# Altium integrated library TI_Logic_Little_Logic.IntLib: 1164 symbols (part 14 of 35)
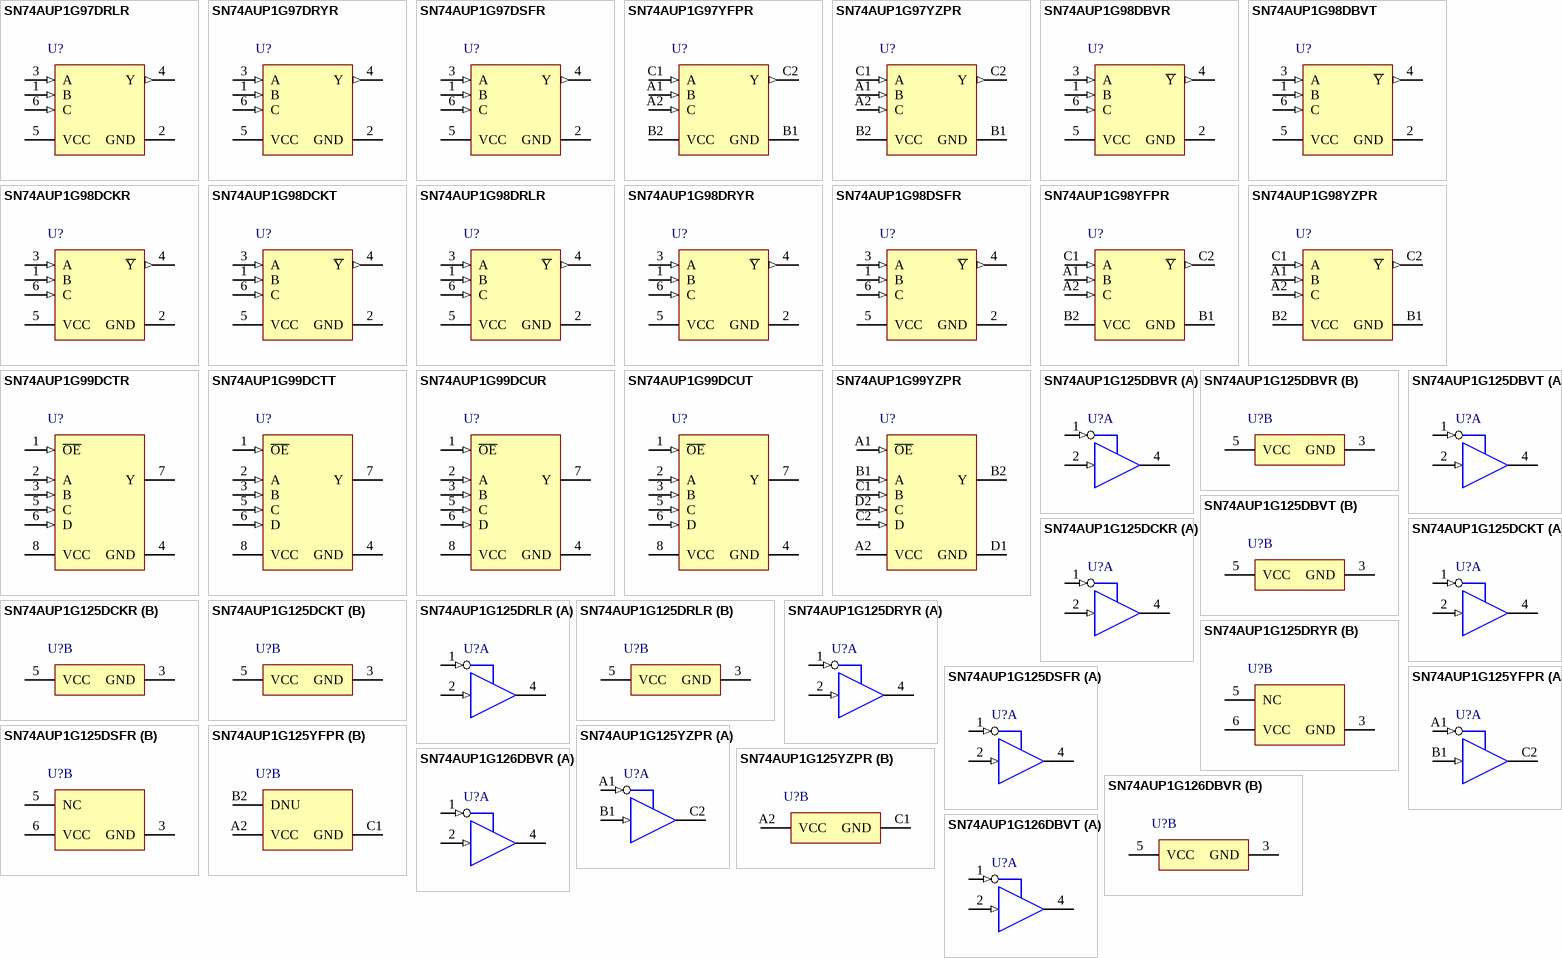
[diagram p73: symbols SN74AUP1G97DRLR to SN74AUP1G126DBVT]

## SN74AUP1G99DCTR
designator U?
Low-Power Ultra-Configurable Multiple-Function Gate with 3-State Outputs, DCT0008A, LARGE T&R; Generic Part Number: SN74AUP1G99; Manufacturer: Texas Instruments; PartNumber: SN74AUP1G99DCTR; VCC(Min)(V): 0.8; VCC(Max)(V): 3.6; Output Type: CMOS; ICC @ Nom Voltage(Max)(mA): 0.0009; Bits(#): 1; F @ Nom Voltage(Max)(Mhz): 100; Rating: Catalog; Technology Family: AUP; Voltage(Nom)(V): 0.8,1.2,1.5,1.8,2.5,3.3; Schmitt Trigger: No; Output Drive (IOL/IOH)(Max)(mA): 20/-20; tpd @ Nom Voltage(Max)(ns): 48,24.9,15.1,11.7,7.9,6.7; Logic: True; Sub-Family: Configurable Logic; 3-State Output: Yes; DatasheetVersion: SCES594C; PackageReference: DCT0008A; Supplier 1: Mouser; Supplier Part Number 1: 595-SN74AUP1G99DCTR; Supplier 2: Digi-Key; Supplier Part Number 2: 296-19089-2-ND; Supplier 3: Digi-Key; Supplier Part Number 3: 296-19089-1-ND; Supplier 4: Digi-Key; Supplier Part Number 4: 296-19089-6-ND; Input Type: CMOS; Operating Temperature Range(C): -40 to 85; Gate Type: Configurable; ComponentLink1Description: Manufacturer URL; ComponentLink1URL: http://www.ti.com/; ComponentLink2Description: Datasheet; ComponentLink2URL: http://www.ti.com/lit/ds/symlink/sn74aup1g99.pdf
footprint DCT0008A_N (SOP, 8-Leads, Body 2.9x3.2mm, Pitch 0.65mm, IPC Medium Density)
footprint DCT0008A_M (SOP, 8-Leads, Body 2.9x3.2mm, Pitch 0.65mm, IPC Low Density)
footprint DCT0008A_L (SOP, 8-Leads, Body 2.9x3.2mm, Pitch 0.65mm, IPC High Density)
pins: 1 ~{OE} (in), 2 A (in), 3 B (in), 4 GND (power), 5 C (in), 6 D (in), 7 Y (hiz), 8 VCC (power)

## SN74AUP1G99DCTT
designator U?
Low-Power Ultra-Configurable Multiple-Function Gate with 3-State Outputs, DCT0008A, SMALL T&R; Generic Part Number: SN74AUP1G99; Manufacturer: Texas Instruments; PartNumber: SN74AUP1G99DCTT; VCC(Min)(V): 0.8; VCC(Max)(V): 3.6; Output Type: CMOS; ICC @ Nom Voltage(Max)(mA): 0.0009; Bits(#): 1; F @ Nom Voltage(Max)(Mhz): 100; Rating: Catalog; Technology Family: AUP; Voltage(Nom)(V): 0.8,1.2,1.5,1.8,2.5,3.3; Schmitt Trigger: No; Output Drive (IOL/IOH)(Max)(mA): 20/-20; tpd @ Nom Voltage(Max)(ns): 48,24.9,15.1,11.7,7.9,6.7; Logic: True; Sub-Family: Configurable Logic; 3-State Output: Yes; DatasheetVersion: SCES594C; PackageReference: DCT0008A; Supplier 1: Mouser; Supplier Part Number 1: 595-SN74AUP1G99DCTT; Supplier 2: Digi-Key; Supplier Part Number 2: SN74AUP1G99DCTT-ND; Input Type: CMOS; Operating Temperature Range(C): -40 to 85; Gate Type: Configurable; ComponentLink1Description: Manufacturer URL; ComponentLink1URL: http://www.ti.com/; ComponentLink2Description: Datasheet; ComponentLink2URL: http://www.ti.com/lit/ds/symlink/sn74aup1g99.pdf
footprint DCT0008A_N (SOP, 8-Leads, Body 2.9x3.2mm, Pitch 0.65mm, IPC Medium Density)
footprint DCT0008A_M (SOP, 8-Leads, Body 2.9x3.2mm, Pitch 0.65mm, IPC Low Density)
footprint DCT0008A_L (SOP, 8-Leads, Body 2.9x3.2mm, Pitch 0.65mm, IPC High Density)
pins: 1 ~{OE} (in), 2 A (in), 3 B (in), 4 GND (power), 5 C (in), 6 D (in), 7 Y (hiz), 8 VCC (power)

## SN74AUP1G99DCUR
designator U?
Low-Power Ultra-Configurable Multiple-Function Gate with 3-State Outputs, DCU0008A, LARGE T&R; Generic Part Number: SN74AUP1G99; Manufacturer: Texas Instruments; PartNumber: SN74AUP1G99DCUR; VCC(Min)(V): 0.8; VCC(Max)(V): 3.6; Output Type: CMOS; ICC @ Nom Voltage(Max)(mA): 0.0009; Bits(#): 1; F @ Nom Voltage(Max)(Mhz): 100; Rating: Catalog; Technology Family: AUP; Voltage(Nom)(V): 0.8,1.2,1.5,1.8,2.5,3.3; Schmitt Trigger: No; Output Drive (IOL/IOH)(Max)(mA): 20/-20; tpd @ Nom Voltage(Max)(ns): 48,24.9,15.1,11.7,7.9,6.7; Logic: True; Sub-Family: Configurable Logic; 3-State Output: Yes; DatasheetVersion: SCES594C; PackageReference: DCU0008A; Supplier 1: Mouser; Supplier Part Number 1: 595-SN74AUP1G99DCUR; Supplier 2: Digi-Key; Supplier Part Number 2: 296-19090-2-ND; Supplier 3: Digi-Key; Supplier Part Number 3: 296-19090-1-ND; Supplier 4: Digi-Key; Supplier Part Number 4: 296-19090-6-ND; Input Type: CMOS; Operating Temperature Range(C): -40 to 85; Gate Type: Configurable; ComponentLink1Description: Manufacturer URL; ComponentLink1URL: http://www.ti.com/; ComponentLink2Description: Datasheet; ComponentLink2URL: http://www.ti.com/lit/ds/symlink/sn74aup1g99.pdf
footprint DCU0008A_N (SOP, 8-Leads, Body 2.4x2.1mm, Pitch 0.5mm, IPC Medium Density)
footprint DCU0008A_M (SOP, 8-Leads, Body 2.4x2.1mm, Pitch 0.5mm, IPC Low Density)
footprint DCU0008A_L (SOP, 8-Leads, Body 2.4x2.1mm, Pitch 0.5mm, IPC High Density)
pins: 1 ~{OE} (in), 2 A (in), 3 B (in), 4 GND (power), 5 C (in), 6 D (in), 7 Y (hiz), 8 VCC (power)

## SN74AUP1G99DCUT
designator U?
Low-Power Ultra-Configurable Multiple-Function Gate with 3-State Outputs, DCU0008A, SMALL T&R; Generic Part Number: SN74AUP1G99; Manufacturer: Texas Instruments; PartNumber: SN74AUP1G99DCUT; VCC(Min)(V): 0.8; VCC(Max)(V): 3.6; Output Type: CMOS; ICC @ Nom Voltage(Max)(mA): 0.0009; Bits(#): 1; F @ Nom Voltage(Max)(Mhz): 100; Rating: Catalog; Technology Family: AUP; Voltage(Nom)(V): 0.8,1.2,1.5,1.8,2.5,3.3; Schmitt Trigger: No; Output Drive (IOL/IOH)(Max)(mA): 20/-20; tpd @ Nom Voltage(Max)(ns): 48,24.9,15.1,11.7,7.9,6.7; Logic: True; Sub-Family: Configurable Logic; 3-State Output: Yes; DatasheetVersion: SCES594C; PackageReference: DCU0008A; Supplier 1: Mouser; Supplier Part Number 1: 595-SN74AUP1G99DCUT; Supplier 2: Digi-Key; Supplier Part Number 2: SN74AUP1G99DCUT-ND; Input Type: CMOS; Operating Temperature Range(C): -40 to 85; Gate Type: Configurable; ComponentLink1Description: Manufacturer URL; ComponentLink1URL: http://www.ti.com/; ComponentLink2Description: Datasheet; ComponentLink2URL: http://www.ti.com/lit/ds/symlink/sn74aup1g99.pdf
footprint DCU0008A_N (SOP, 8-Leads, Body 2.4x2.1mm, Pitch 0.5mm, IPC Medium Density)
footprint DCU0008A_M (SOP, 8-Leads, Body 2.4x2.1mm, Pitch 0.5mm, IPC Low Density)
footprint DCU0008A_L (SOP, 8-Leads, Body 2.4x2.1mm, Pitch 0.5mm, IPC High Density)
pins: 1 ~{OE} (in), 2 A (in), 3 B (in), 4 GND (power), 5 C (in), 6 D (in), 7 Y (hiz), 8 VCC (power)

## SN74AUP1G99YZPR
designator U?
Low-Power Ultra-Configurable Multiple-Function Gate with 3-State Outputs, YZP0008ADAD, LARGE T&R; Generic Part Number: SN74AUP1G99; Manufacturer: Texas Instruments; PartNumber: SN74AUP1G99YZPR; VCC(Min)(V): 0.8; VCC(Max)(V): 3.6; Output Type: CMOS; ICC @ Nom Voltage(Max)(mA): 0.0009; Bits(#): 1; F @ Nom Voltage(Max)(Mhz): 100; Rating: Catalog; Technology Family: AUP; Voltage(Nom)(V): 0.8,1.2,1.5,1.8,2.5,3.3; Schmitt Trigger: No; Output Drive (IOL/IOH)(Max)(mA): 20/-20; tpd @ Nom Voltage(Max)(ns): 48,24.9,15.1,11.7,7.9,6.7; Logic: True; Sub-Family: Configurable Logic; 3-State Output: Yes; DatasheetVersion: SCES594C; PackageReference: YZP0008ADAD; Supplier 1: Mouser; Supplier Part Number 1: 595-SN74AUP1G99YZPR; Supplier 2: Digi-Key; Supplier Part Number 2: 296-21020-2-ND; Supplier 3: Digi-Key; Supplier Part Number 3: 296-21020-1-ND; Supplier 4: Digi-Key; Supplier Part Number 4: 296-21020-6-ND; Input Type: CMOS; Operating Temperature Range(C): -40 to 85; Gate Type: Configurable; ComponentLink1Description: Manufacturer URL; ComponentLink1URL: http://www.ti.com/; ComponentLink2Description: Datasheet; ComponentLink2URL: http://www.ti.com/lit/ds/symlink/sn74aup1g99.pdf
footprint YZP0008ADAD (BGA, 8-Balls, Body 1.89x0.89mm, Pitch 0.5mm)
pins: A1 ~{OE} (in), A2 VCC (power), B1 A (in), B2 Y (hiz), C1 B (in), C2 D (in), D1 GND (power), D2 C (in)

## SN74AUP1G125DBVR
designator U?
Low-Power Single Bus Buffer Gate with 3-State Output, DBV0005A, LARGE T&R; Generic Part Number: SN74AUP1G125; Manufacturer: Texas Instruments; PartNumber: SN74AUP1G125DBVR; VCC(Min)(V): 0.8; VCC(Max)(V): 3.6; Output Type: CMOS; ICC @ Nom Voltage(Max)(mA): 0.0009; Bits(#): 1; F @ Nom Voltage(Max)(Mhz): 100; Rating: Catalog; Technology Family: AUP; Voltage(Nom)(V): 0.8,1.2,1.5,1.8,2.5,3.3; Schmitt Trigger: No; Output Drive (IOL/IOH)(Max)(mA): 20/-20; tpd @ Nom Voltage(Max)(ns): 29,18.7,12.5,10.1,7.2,6; Logic: True; Sub-Family: Non-Inverting Buffer/Driver; 3-State Output: Yes; DatasheetVersion: SCES595L; PackageReference: DBV0005A; Supplier 1: Mouser; Supplier Part Number 1: 595-SN74AUP1G125DBVR; Supplier 2: Digi-Key; Supplier Part Number 2: 296-21011-2-ND; Supplier 3: Digi-Key; Supplier Part Number 3: 296-21011-1-ND; Supplier 4: Digi-Key; Supplier Part Number 4: 296-21011-6-ND; Input Type: CMOS; Operating Temperature Range(C): -40 to 85; ComponentLink1Description: Manufacturer URL; ComponentLink1URL: http://www.ti.com/; ComponentLink2Description: Datasheet; ComponentLink2URL: http://www.ti.com/lit/ds/symlink/sn74aup1g125.pdf
footprint DBV0005A_N (SOT23, 5-Leads, Body 3.05x1.75mm, Pitch 0.95mm, IPC Medium Density)
footprint DBV0005A_M (SOT23, 5-Leads, Body 3.05x1.75mm, Pitch 0.95mm, IPC Low Density)
footprint DBV0005A_L (SOT23, 5-Leads, Body 3.05x1.75mm, Pitch 0.95mm, IPC High Density)
part A pins: 1 ~{OE} (in), 2 A (in), 4 Y (hiz)
part B pins: 3 GND (power), 5 VCC (power)

## SN74AUP1G125DBVT
designator U?
Low-Power Single Bus Buffer Gate with 3-State Output, DBV0005A, SMALL T&R; Generic Part Number: SN74AUP1G125; Manufacturer: Texas Instruments; PartNumber: SN74AUP1G125DBVT; VCC(Min)(V): 0.8; VCC(Max)(V): 3.6; Output Type: CMOS; ICC @ Nom Voltage(Max)(mA): 0.0009; Bits(#): 1; F @ Nom Voltage(Max)(Mhz): 100; Rating: Catalog; Technology Family: AUP; Voltage(Nom)(V): 0.8,1.2,1.5,1.8,2.5,3.3; Schmitt Trigger: No; Output Drive (IOL/IOH)(Max)(mA): 20/-20; tpd @ Nom Voltage(Max)(ns): 29,18.7,12.5,10.1,7.2,6; Logic: True; Sub-Family: Non-Inverting Buffer/Driver; 3-State Output: Yes; DatasheetVersion: SCES595L; PackageReference: DBV0005A; Supplier 1: Mouser; Supplier Part Number 1: 595-SN74AUP1G125DBVT; Supplier 2: Digi-Key; Supplier Part Number 2: SN74AUP1G125DBVT-ND; Input Type: CMOS; Operating Temperature Range(C): -40 to 85; ComponentLink1Description: Manufacturer URL; ComponentLink1URL: http://www.ti.com/; ComponentLink2Description: Datasheet; ComponentLink2URL: http://www.ti.com/lit/ds/symlink/sn74aup1g125.pdf
footprint DBV0005A_N (SOT23, 5-Leads, Body 3.05x1.75mm, Pitch 0.95mm, IPC Medium Density)
footprint DBV0005A_M (SOT23, 5-Leads, Body 3.05x1.75mm, Pitch 0.95mm, IPC Low Density)
footprint DBV0005A_L (SOT23, 5-Leads, Body 3.05x1.75mm, Pitch 0.95mm, IPC High Density)
part A pins: 1 ~{OE} (in), 2 A (in), 4 Y (hiz)
part B pins: 3 GND (power), 5 VCC (power)

## SN74AUP1G125DCKR
designator U?
Low-Power Single Bus Buffer Gate with 3-State Output, DCK0005A, LARGE T&R; Generic Part Number: SN74AUP1G125; Manufacturer: Texas Instruments; PartNumber: SN74AUP1G125DCKR; VCC(Min)(V): 0.8; VCC(Max)(V): 3.6; Output Type: CMOS; ICC @ Nom Voltage(Max)(mA): 0.0009; Bits(#): 1; F @ Nom Voltage(Max)(Mhz): 100; Rating: Catalog; Technology Family: AUP; Voltage(Nom)(V): 0.8,1.2,1.5,1.8,2.5,3.3; Schmitt Trigger: No; Output Drive (IOL/IOH)(Max)(mA): 20/-20; tpd @ Nom Voltage(Max)(ns): 29,18.7,12.5,10.1,7.2,6; Logic: True; Sub-Family: Non-Inverting Buffer/Driver; 3-State Output: Yes; DatasheetVersion: SCES595L; PackageReference: DCK0005A; Supplier 1: Mouser; Supplier Part Number 1: 595-SN74AUP1G125DCKR; Supplier 2: Digi-Key; Supplier Part Number 2: 296-21012-2-ND; Supplier 3: Digi-Key; Supplier Part Number 3: 296-21012-1-ND; Supplier 4: Digi-Key; Supplier Part Number 4: 296-21012-6-ND; Input Type: CMOS; Operating Temperature Range(C): -40 to 85; ComponentLink1Description: Manufacturer URL; ComponentLink1URL: http://www.ti.com/; ComponentLink2Description: Datasheet; ComponentLink2URL: http://www.ti.com/lit/ds/symlink/sn74aup1g125.pdf
footprint DCK0005A_N (SOT23, 5-Leads, Body 2.15x1.4mm, Pitch 0.65mm, IPC Medium Density)
footprint DCK0005A_M (SOT23, 5-Leads, Body 2.15x1.4mm, Pitch 0.65mm, IPC Low Density)
footprint DCK0005A_L (SOT23, 5-Leads, Body 2.15x1.4mm, Pitch 0.65mm, IPC High Density)
part A pins: 1 ~{OE} (in), 2 A (in), 4 Y (hiz)
part B pins: 3 GND (power), 5 VCC (power)

## SN74AUP1G125DCKT
designator U?
Low-Power Single Bus Buffer Gate with 3-State Output, DCK0005A, SMALL T&R; Generic Part Number: SN74AUP1G125; Manufacturer: Texas Instruments; PartNumber: SN74AUP1G125DCKT; VCC(Min)(V): 0.8; VCC(Max)(V): 3.6; Output Type: CMOS; ICC @ Nom Voltage(Max)(mA): 0.0009; Bits(#): 1; F @ Nom Voltage(Max)(Mhz): 100; Rating: Catalog; Technology Family: AUP; Voltage(Nom)(V): 0.8,1.2,1.5,1.8,2.5,3.3; Schmitt Trigger: No; Output Drive (IOL/IOH)(Max)(mA): 20/-20; tpd @ Nom Voltage(Max)(ns): 29,18.7,12.5,10.1,7.2,6; Logic: True; Sub-Family: Non-Inverting Buffer/Driver; 3-State Output: Yes; DatasheetVersion: SCES595L; PackageReference: DCK0005A; Supplier 1: Mouser; Supplier Part Number 1: 595-SN74AUP1G125DCKT; Supplier 2: Digi-Key; Supplier Part Number 2: SN74AUP1G125DCKT-ND; Input Type: CMOS; Operating Temperature Range(C): -40 to 85; ComponentLink1Description: Manufacturer URL; ComponentLink1URL: http://www.ti.com/; ComponentLink2Description: Datasheet; ComponentLink2URL: http://www.ti.com/lit/ds/symlink/sn74aup1g125.pdf
footprint DCK0005A_N (SOT23, 5-Leads, Body 2.15x1.4mm, Pitch 0.65mm, IPC Medium Density)
footprint DCK0005A_M (SOT23, 5-Leads, Body 2.15x1.4mm, Pitch 0.65mm, IPC Low Density)
footprint DCK0005A_L (SOT23, 5-Leads, Body 2.15x1.4mm, Pitch 0.65mm, IPC High Density)
part A pins: 1 ~{OE} (in), 2 A (in), 4 Y (hiz)
part B pins: 3 GND (power), 5 VCC (power)

## SN74AUP1G125DRLR
designator U?
Low-Power Single Bus Buffer Gate with 3-State Output, DRL0005A, LARGE T&R; Generic Part Number: SN74AUP1G125; Manufacturer: Texas Instruments; PartNumber: SN74AUP1G125DRLR; VCC(Min)(V): 0.8; VCC(Max)(V): 3.6; Output Type: CMOS; ICC @ Nom Voltage(Max)(mA): 0.0009; Bits(#): 1; F @ Nom Voltage(Max)(Mhz): 100; Rating: Catalog; Technology Family: AUP; Voltage(Nom)(V): 0.8,1.2,1.5,1.8,2.5,3.3; Schmitt Trigger: No; Output Drive (IOL/IOH)(Max)(mA): 20/-20; tpd @ Nom Voltage(Max)(ns): 29,18.7,12.5,10.1,7.2,6; Logic: True; Sub-Family: Non-Inverting Buffer/Driver; 3-State Output: Yes; DatasheetVersion: SCES595L; PackageReference: DRL0005A; Supplier 1: Mouser; Supplier Part Number 1: 595-SN74AUP1G125DRLR; Supplier 2: Digi-Key; Supplier Part Number 2: 296-18713-2-ND; Supplier 3: Digi-Key; Supplier Part Number 3: 296-18713-1-ND; Supplier 4: Digi-Key; Supplier Part Number 4: 296-18713-6-ND; Input Type: CMOS; Operating Temperature Range(C): -40 to 85; ComponentLink1Description: Manufacturer URL; ComponentLink1URL: http://www.ti.com/; ComponentLink2Description: Datasheet; ComponentLink2URL: http://www.ti.com/lit/ds/symlink/sn74aup1g125.pdf
footprint DRL0005A_N (SOT23, 5-Leads, Body 1.7x1.3mm, Pitch 0.5mm, IPC Medium Density)
footprint DRL0005A_M (SOT23, 5-Leads, Body 1.7x1.3mm, Pitch 0.5mm, IPC Low Density)
footprint DRL0005A_L (SOT23, 5-Leads, Body 1.7x1.3mm, Pitch 0.5mm, IPC High Density)
part A pins: 1 ~{OE} (in), 2 A (in), 4 Y (hiz)
part B pins: 3 GND (power), 5 VCC (power)

## SN74AUP1G125DRYR
designator U?
Low-Power Single Bus Buffer Gate with 3-State Output, DRY0006A, LARGE T&R; Generic Part Number: SN74AUP1G125; Manufacturer: Texas Instruments; PartNumber: SN74AUP1G125DRYR; VCC(Min)(V): 0.8; VCC(Max)(V): 3.6; Output Type: CMOS; ICC @ Nom Voltage(Max)(mA): 0.0009; Bits(#): 1; F @ Nom Voltage(Max)(Mhz): 100; Rating: Catalog; Technology Family: AUP; Voltage(Nom)(V): 0.8,1.2,1.5,1.8,2.5,3.3; Schmitt Trigger: No; Output Drive (IOL/IOH)(Max)(mA): 20/-20; tpd @ Nom Voltage(Max)(ns): 29,18.7,12.5,10.1,7.2,6; Logic: True; Sub-Family: Non-Inverting Buffer/Driver; 3-State Output: Yes; DatasheetVersion: SCES595L; PackageReference: DRY0006A; Supplier 1: Mouser; Supplier Part Number 1: 595-SN74AUP1G125DRYR; Supplier 2: Digi-Key; Supplier Part Number 2: 296-27341-2-ND; Supplier 3: Digi-Key; Supplier Part Number 3: 296-27341-1-ND; Supplier 4: Digi-Key; Supplier Part Number 4: 296-27341-6-ND; Input Type: CMOS; Operating Temperature Range(C): -40 to 85; ComponentLink1Description: Manufacturer URL; ComponentLink1URL: http://www.ti.com/; ComponentLink2Description: Datasheet; ComponentLink2URL: http://www.ti.com/lit/ds/symlink/sn74aup1g125.pdf
footprint DRY0006A_V (SON, 6-Leads, Body 1.45x1mm, Pitch 0.5mm)
part A pins: 1 ~{OE} (in) "Input", 2 A (in) "Input", 4 Y (hiz) "Output"
part B pins: 3 GND (power) "Ground", 5 NC "Not connected", 6 VCC (power) "Power pin"

## SN74AUP1G125DSFR
designator U?
Low-Power Single Bus Buffer Gate with 3-State Output, DSF0006A, LARGE T&R; Generic Part Number: SN74AUP1G125; Manufacturer: Texas Instruments; PartNumber: SN74AUP1G125DSFR; VCC(Min)(V): 0.8; VCC(Max)(V): 3.6; Output Type: CMOS; ICC @ Nom Voltage(Max)(mA): 0.0009; Bits(#): 1; F @ Nom Voltage(Max)(Mhz): 100; Rating: Catalog; Technology Family: AUP; Voltage(Nom)(V): 0.8,1.2,1.5,1.8,2.5,3.3; Schmitt Trigger: No; Output Drive (IOL/IOH)(Max)(mA): 20/-20; tpd @ Nom Voltage(Max)(ns): 29,18.7,12.5,10.1,7.2,6; Logic: True; Sub-Family: Non-Inverting Buffer/Driver; 3-State Output: Yes; DatasheetVersion: SCES595L; PackageReference: DSF0006A; Supplier 1: Mouser; Supplier Part Number 1: 595-SN74AUP1G125DSFR; Supplier 2: Digi-Key; Supplier Part Number 2: 296-27269-2-ND; Supplier 3: Digi-Key; Supplier Part Number 3: 296-27269-1-ND; Supplier 4: Digi-Key; Supplier Part Number 4: 296-27269-6-ND; Input Type: CMOS; Operating Temperature Range(C): -40 to 85; ComponentLink1Description: Manufacturer URL; ComponentLink1URL: http://www.ti.com/; ComponentLink2Description: Datasheet; ComponentLink2URL: http://www.ti.com/lit/ds/symlink/sn74aup1g125.pdf
footprint DSF0006A_V (SON, 6-Leads, Body 1x1mm, Pitch 0.35mm, TI Recommend)
part A pins: 1 ~{OE} (in) "Input", 2 A (in) "Input", 4 Y (hiz) "Output"
part B pins: 3 GND (power) "Ground", 5 NC "Not connected", 6 VCC (power) "Power pin"

## SN74AUP1G125YFPR
designator U?
Low-Power Single Bus Buffer Gate with 3-State Output, YZP0006AAAA, LARGE T&R; Generic Part Number: SN74AUP1G125; Manufacturer: Texas Instruments; PartNumber: SN74AUP1G125YFPR; VCC(Min)(V): 0.8; VCC(Max)(V): 3.6; Output Type: CMOS; ICC @ Nom Voltage(Max)(mA): 0.0009; Bits(#): 1; F @ Nom Voltage(Max)(Mhz): 100; Rating: Catalog; Technology Family: AUP; Voltage(Nom)(V): 0.8,1.2,1.5,1.8,2.5,3.3; Schmitt Trigger: No; Output Drive (IOL/IOH)(Max)(mA): 20/-20; tpd @ Nom Voltage(Max)(ns): 29,18.7,12.5,10.1,7.2,6; Logic: True; Sub-Family: Non-Inverting Buffer/Driver; 3-State Output: Yes; DatasheetVersion: SCES595L; PackageReference: YZP0006AAAA; Supplier 1: Mouser; Supplier Part Number 1: 595-SN74AUP1G125YFPR; Supplier 2: Digi-Key; Supplier Part Number 2: 296-25394-2-ND; Supplier 3: Digi-Key; Supplier Part Number 3: 296-25394-1-ND; Supplier 4: Digi-Key; Supplier Part Number 4: 296-25394-6-ND; Input Type: CMOS; Operating Temperature Range(C): -40 to 85; ComponentLink1Description: Manufacturer URL; ComponentLink1URL: http://www.ti.com/; ComponentLink2Description: Datasheet; ComponentLink2URL: http://www.ti.com/lit/ds/symlink/sn74aup1g125.pdf
footprint YZP0006AAAA (BGA, 6-Balls, Body 1.16x0.76mm, Pitch 0.4mm)
part A pins: A1 ~{OE} (in), B1 A (in), C2 Y (hiz)
part B pins: A2 VCC (power), B2 DNU, C1 GND (power)

## SN74AUP1G125YZPR
designator U?
Low-Power Single Bus Buffer Gate with 3-State Output, YZP0005ADAD, LARGE T&R; Generic Part Number: SN74AUP1G125; Manufacturer: Texas Instruments; PartNumber: SN74AUP1G125YZPR; VCC(Min)(V): 0.8; VCC(Max)(V): 3.6; Output Type: CMOS; ICC @ Nom Voltage(Max)(mA): 0.0009; Bits(#): 1; F @ Nom Voltage(Max)(Mhz): 100; Rating: Catalog; Technology Family: AUP; Voltage(Nom)(V): 0.8,1.2,1.5,1.8,2.5,3.3; Schmitt Trigger: No; Output Drive (IOL/IOH)(Max)(mA): 20/-20; tpd @ Nom Voltage(Max)(ns): 29,18.7,12.5,10.1,7.2,6; Logic: True; Sub-Family: Non-Inverting Buffer/Driver; 3-State Output: Yes; DatasheetVersion: SCES595L; PackageReference: YZP0005ADAD; Supplier 1: Mouser; Supplier Part Number 1: 595-SN74AUP1G125YZPR; Supplier 2: Digi-Key; Supplier Part Number 2: 296-21013-2-ND; Supplier 3: Digi-Key; Supplier Part Number 3: 296-21013-1-ND; Supplier 4: Digi-Key; Supplier Part Number 4: 296-21013-6-ND; Input Type: CMOS; Operating Temperature Range(C): -40 to 85; ComponentLink1Description: Manufacturer URL; ComponentLink1URL: http://www.ti.com/; ComponentLink2Description: Datasheet; ComponentLink2URL: http://www.ti.com/lit/ds/symlink/sn74aup1g125.pdf
footprint YZP0005ADAD (BGA, 5-Balls, Body 1.39x0.89mm, Pitch 0.5mm)
part A pins: A1 ~{OE} (in), B1 A (in), C2 Y (hiz)
part B pins: A2 VCC (power), C1 GND (power)

## SN74AUP1G126DBVR
designator U?
Low-Power Single Bus Buffer Gate with 3-State Output, DBV0005A, LARGE T&R; Generic Part Number: SN74AUP1G126; Manufacturer: Texas Instruments; PartNumber: SN74AUP1G126DBVR; VCC(Min)(V): 0.8; VCC(Max)(V): 3.6; Output Type: CMOS; ICC @ Nom Voltage(Max)(mA): 0.0009; Bits(#): 1; F @ Nom Voltage(Max)(Mhz): 100; Rating: Catalog; Technology Family: AUP; Voltage(Nom)(V): 0.8,1.2,1.5,1.8,2.5,3.3; Schmitt Trigger: No; Output Drive (IOL/IOH)(Max)(mA): 20/-20; tpd @ Nom Voltage(Max)(ns): 29,18.7,12.5,10.1,7.2,6; Logic: True; Sub-Family: Non-Inverting Buffer/Driver; 3-State Output: Yes; DatasheetVersion: SCES596F; PackageReference: DBV0005A; Supplier 1: Mouser; Supplier Part Number 1: 595-SN74AUP1G126DBVR; Supplier 2: Digi-Key; Supplier Part Number 2: 296-18005-2-ND; Supplier 3: Digi-Key; Supplier Part Number 3: 296-18005-1-ND; Supplier 4: Digi-Key; Supplier Part Number 4: 296-18005-6-ND; Input Type: CMOS; Operating Temperature Range(C): -40 to 85; ComponentLink1Description: Manufacturer URL; ComponentLink1URL: http://www.ti.com/; ComponentLink2Description: Datasheet; ComponentLink2URL: http://www.ti.com/lit/ds/symlink/sn74aup1g126.pdf
footprint DBV0005A_N (SOT23, 5-Leads, Body 3.05x1.75mm, Pitch 0.95mm, IPC Medium Density)
footprint DBV0005A_M (SOT23, 5-Leads, Body 3.05x1.75mm, Pitch 0.95mm, IPC Low Density)
footprint DBV0005A_L (SOT23, 5-Leads, Body 3.05x1.75mm, Pitch 0.95mm, IPC High Density)
part A pins: 1 OE (in), 2 A (in), 4 Y (hiz)
part B pins: 3 GND (power), 5 VCC (power)

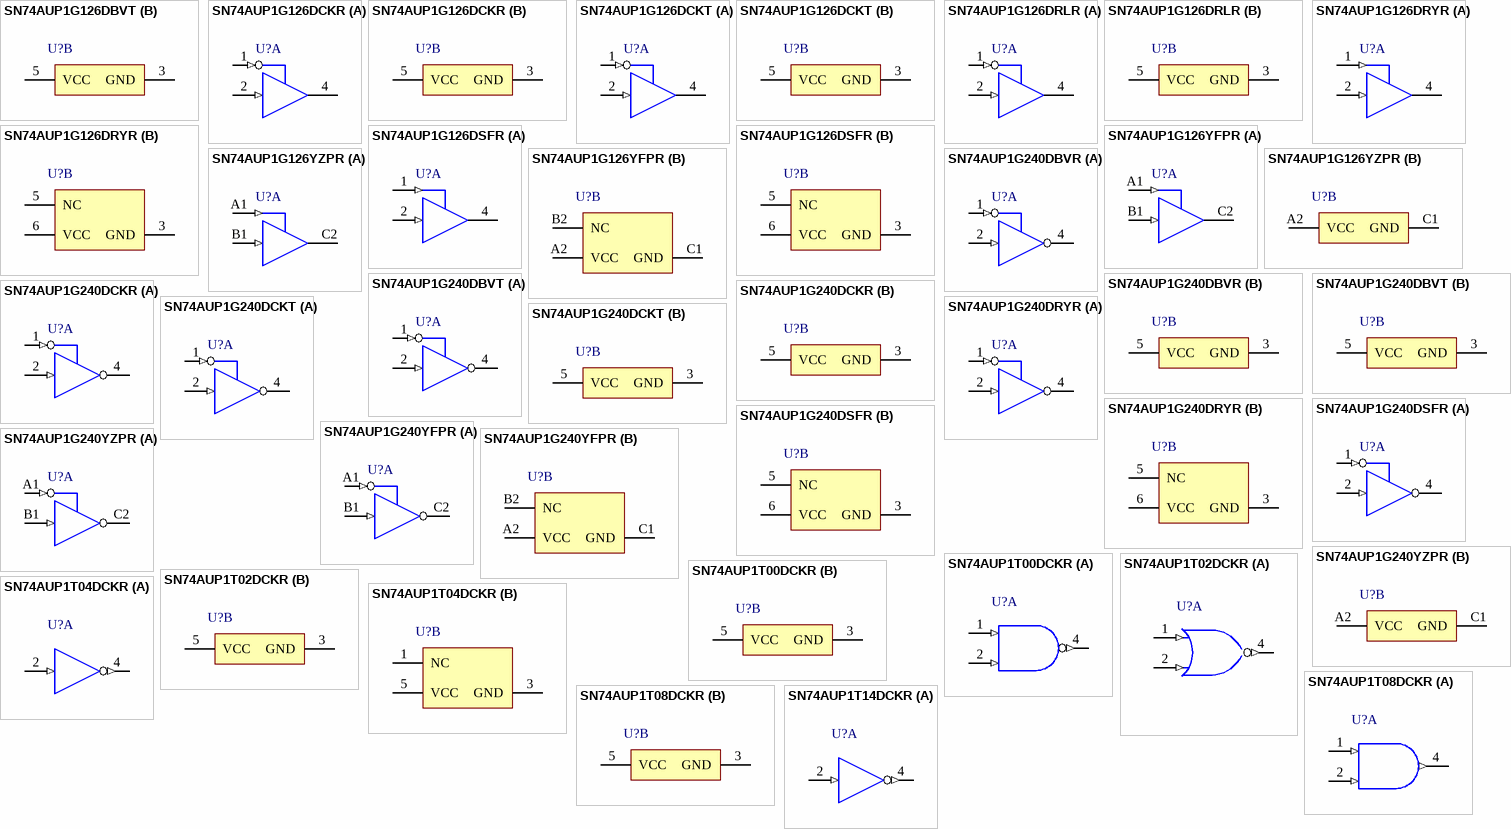
[diagram p22: symbols SN74AUP1G126DBVT to SN74AUP1T14DCKR]

## SN74AUP1G126DBVT
designator U?
Low-Power Single Bus Buffer Gate with 3-State Output, DBV0005A, SMALL T&R; Generic Part Number: SN74AUP1G126; Manufacturer: Texas Instruments; PartNumber: SN74AUP1G126DBVT; VCC(Min)(V): 0.8; VCC(Max)(V): 3.6; Output Type: CMOS; ICC @ Nom Voltage(Max)(mA): 0.0009; Bits(#): 1; F @ Nom Voltage(Max)(Mhz): 100; Rating: Catalog; Technology Family: AUP; Voltage(Nom)(V): 0.8,1.2,1.5,1.8,2.5,3.3; Schmitt Trigger: No; Output Drive (IOL/IOH)(Max)(mA): 20/-20; tpd @ Nom Voltage(Max)(ns): 29,18.7,12.5,10.1,7.2,6; Logic: True; Sub-Family: Non-Inverting Buffer/Driver; 3-State Output: Yes; DatasheetVersion: SCES596F; PackageReference: DBV0005A; Supplier 1: Mouser; Supplier Part Number 1: 595-SN74AUP1G126DBVT; Supplier 2: Digi-Key; Supplier Part Number 2: 296-32259-2-ND; Supplier 3: Digi-Key; Supplier Part Number 3: 296-32259-1-ND; Supplier 4: Digi-Key; Supplier Part Number 4: 296-32259-6-ND; Input Type: CMOS; Operating Temperature Range(C): -40 to 85; ComponentLink1Description: Manufacturer URL; ComponentLink1URL: http://www.ti.com/; ComponentLink2Description: Datasheet; ComponentLink2URL: http://www.ti.com/lit/ds/symlink/sn74aup1g126.pdf
footprint DBV0005A_N (SOT23, 5-Leads, Body 3.05x1.75mm, Pitch 0.95mm, IPC Medium Density)
footprint DBV0005A_M (SOT23, 5-Leads, Body 3.05x1.75mm, Pitch 0.95mm, IPC Low Density)
footprint DBV0005A_L (SOT23, 5-Leads, Body 3.05x1.75mm, Pitch 0.95mm, IPC High Density)
part A pins: 1 OE (in), 2 A (in), 4 Y (hiz)
part B pins: 3 GND (power), 5 VCC (power)

## SN74AUP1G126DCKR
designator U?
Low-Power Single Bus Buffer Gate with 3-State Output, DCK0005A, LARGE T&R; Generic Part Number: SN74AUP1G126; Manufacturer: Texas Instruments; PartNumber: SN74AUP1G126DCKR; VCC(Min)(V): 0.8; VCC(Max)(V): 3.6; Output Type: CMOS; ICC @ Nom Voltage(Max)(mA): 0.0009; Bits(#): 1; F @ Nom Voltage(Max)(Mhz): 100; Rating: Catalog; Technology Family: AUP; Voltage(Nom)(V): 0.8,1.2,1.5,1.8,2.5,3.3; Schmitt Trigger: No; Output Drive (IOL/IOH)(Max)(mA): 20/-20; tpd @ Nom Voltage(Max)(ns): 29,18.7,12.5,10.1,7.2,6; Logic: True; Sub-Family: Non-Inverting Buffer/Driver; 3-State Output: Yes; DatasheetVersion: SCES596F; PackageReference: DCK0005A; Supplier 1: Mouser; Supplier Part Number 1: 595-SN74AUP1G126DCKR; Supplier 2: Digi-Key; Supplier Part Number 2: 296-18006-2-ND; Supplier 3: Digi-Key; Supplier Part Number 3: 296-18006-1-ND; Supplier 4: Digi-Key; Supplier Part Number 4: 296-18006-6-ND; Input Type: CMOS; Operating Temperature Range(C): -40 to 85; ComponentLink1Description: Manufacturer URL; ComponentLink1URL: http://www.ti.com/; ComponentLink2Description: Datasheet; ComponentLink2URL: http://www.ti.com/lit/ds/symlink/sn74aup1g126.pdf
footprint DCK0005A_N (SOT23, 5-Leads, Body 2.15x1.4mm, Pitch 0.65mm, IPC Medium Density)
footprint DCK0005A_M (SOT23, 5-Leads, Body 2.15x1.4mm, Pitch 0.65mm, IPC Low Density)
footprint DCK0005A_L (SOT23, 5-Leads, Body 2.15x1.4mm, Pitch 0.65mm, IPC High Density)
part A pins: 1 OE (in), 2 A (in), 4 Y (hiz)
part B pins: 3 GND (power), 5 VCC (power)

## SN74AUP1G126DCKT
designator U?
Low-Power Single Bus Buffer Gate with 3-State Output, DCK0005A, SMALL T&R; Generic Part Number: SN74AUP1G126; Manufacturer: Texas Instruments; PartNumber: SN74AUP1G126DCKT; VCC(Min)(V): 0.8; VCC(Max)(V): 3.6; Output Type: CMOS; ICC @ Nom Voltage(Max)(mA): 0.0009; Bits(#): 1; F @ Nom Voltage(Max)(Mhz): 100; Rating: Catalog; Technology Family: AUP; Voltage(Nom)(V): 0.8,1.2,1.5,1.8,2.5,3.3; Schmitt Trigger: No; Output Drive (IOL/IOH)(Max)(mA): 20/-20; tpd @ Nom Voltage(Max)(ns): 29,18.7,12.5,10.1,7.2,6; Logic: True; Sub-Family: Non-Inverting Buffer/Driver; 3-State Output: Yes; DatasheetVersion: SCES596F; PackageReference: DCK0005A; Supplier 1: Mouser; Supplier Part Number 1: 595-SN74AUP1G126DCKT; Supplier 2: Digi-Key; Supplier Part Number 2: 296-32260-2-ND; Supplier 3: Digi-Key; Supplier Part Number 3: 296-32260-1-ND; Supplier 4: Digi-Key; Supplier Part Number 4: 296-32260-6-ND; Input Type: CMOS; Operating Temperature Range(C): -40 to 85; ComponentLink1Description: Manufacturer URL; ComponentLink1URL: http://www.ti.com/; ComponentLink2Description: Datasheet; ComponentLink2URL: http://www.ti.com/lit/ds/symlink/sn74aup1g126.pdf
footprint DCK0005A_N (SOT23, 5-Leads, Body 2.15x1.4mm, Pitch 0.65mm, IPC Medium Density)
footprint DCK0005A_M (SOT23, 5-Leads, Body 2.15x1.4mm, Pitch 0.65mm, IPC Low Density)
footprint DCK0005A_L (SOT23, 5-Leads, Body 2.15x1.4mm, Pitch 0.65mm, IPC High Density)
part A pins: 1 OE (in), 2 A (in), 4 Y (hiz)
part B pins: 3 GND (power), 5 VCC (power)

## SN74AUP1G126DRLR
designator U?
Low-Power Single Bus Buffer Gate with 3-State Output, DRL0005A, LARGE T&R; Generic Part Number: SN74AUP1G126; Manufacturer: Texas Instruments; PartNumber: SN74AUP1G126DRLR; VCC(Min)(V): 0.8; VCC(Max)(V): 3.6; Output Type: CMOS; ICC @ Nom Voltage(Max)(mA): 0.0009; Bits(#): 1; F @ Nom Voltage(Max)(Mhz): 100; Rating: Catalog; Technology Family: AUP; Voltage(Nom)(V): 0.8,1.2,1.5,1.8,2.5,3.3; Schmitt Trigger: No; Output Drive (IOL/IOH)(Max)(mA): 20/-20; tpd @ Nom Voltage(Max)(ns): 29,18.7,12.5,10.1,7.2,6; Logic: True; Sub-Family: Non-Inverting Buffer/Driver; 3-State Output: Yes; DatasheetVersion: SCES596F; PackageReference: DRL0005A; Supplier 1: Mouser; Supplier Part Number 1: 595-SN74AUP1G126DRLR; Supplier 2: Digi-Key; Supplier Part Number 2: 296-18603-2-ND; Supplier 3: Digi-Key; Supplier Part Number 3: 296-18603-1-ND; Supplier 4: Digi-Key; Supplier Part Number 4: 296-18603-6-ND; Input Type: CMOS; Operating Temperature Range(C): -40 to 85; ComponentLink1Description: Manufacturer URL; ComponentLink1URL: http://www.ti.com/; ComponentLink2Description: Datasheet; ComponentLink2URL: http://www.ti.com/lit/ds/symlink/sn74aup1g126.pdf
footprint DRL0005A_N (SOT23, 5-Leads, Body 1.7x1.3mm, Pitch 0.5mm, IPC Medium Density)
footprint DRL0005A_M (SOT23, 5-Leads, Body 1.7x1.3mm, Pitch 0.5mm, IPC Low Density)
footprint DRL0005A_L (SOT23, 5-Leads, Body 1.7x1.3mm, Pitch 0.5mm, IPC High Density)
part A pins: 1 OE (in), 2 A (in), 4 Y (hiz)
part B pins: 3 GND (power), 5 VCC (power)

## SN74AUP1G126DRYR
designator U?
Low-Power Single Bus Buffer Gate with 3-State Output, DRY0006A, LARGE T&R; Generic Part Number: SN74AUP1G126; Manufacturer: Texas Instruments; PartNumber: SN74AUP1G126DRYR; VCC(Min)(V): 0.8; VCC(Max)(V): 3.6; Output Type: CMOS; ICC @ Nom Voltage(Max)(mA): 0.0009; Bits(#): 1; F @ Nom Voltage(Max)(Mhz): 100; Rating: Catalog; Technology Family: AUP; Voltage(Nom)(V): 0.8,1.2,1.5,1.8,2.5,3.3; Schmitt Trigger: No; Output Drive (IOL/IOH)(Max)(mA): 20/-20; tpd @ Nom Voltage(Max)(ns): 29,18.7,12.5,10.1,7.2,6; Logic: True; Sub-Family: Non-Inverting Buffer/Driver; 3-State Output: Yes; DatasheetVersion: SCES596F; PackageReference: DRY0006A; Supplier 1: Mouser; Supplier Part Number 1: 595-SN74AUP1G126DRYR; Supplier 2: Digi-Key; Supplier Part Number 2: 296-27270-2-ND; Supplier 3: Digi-Key; Supplier Part Number 3: 296-27270-1-ND; Supplier 4: Digi-Key; Supplier Part Number 4: 296-27270-6-ND; Input Type: CMOS; Operating Temperature Range(C): -40 to 85; ComponentLink1Description: Manufacturer URL; ComponentLink1URL: http://www.ti.com/; ComponentLink2Description: Datasheet; ComponentLink2URL: http://www.ti.com/lit/ds/symlink/sn74aup1g126.pdf
footprint DRY0006A_V (SON, 6-Leads, Body 1.45x1mm, Pitch 0.5mm)
part A pins: 1 OE (in), 2 A (in), 4 Y (hiz)
part B pins: 3 GND (power), 5 NC, 6 VCC (power)

## SN74AUP1G126DSFR
designator U?
Low-Power Single Bus Buffer Gate with 3-State Output, DSF0006A, LARGE T&R; Generic Part Number: SN74AUP1G126; Manufacturer: Texas Instruments; PartNumber: SN74AUP1G126DSFR; VCC(Min)(V): 0.8; VCC(Max)(V): 3.6; Output Type: CMOS; ICC @ Nom Voltage(Max)(mA): 0.0009; Bits(#): 1; F @ Nom Voltage(Max)(Mhz): 100; Rating: Catalog; Technology Family: AUP; Voltage(Nom)(V): 0.8,1.2,1.5,1.8,2.5,3.3; Schmitt Trigger: No; Output Drive (IOL/IOH)(Max)(mA): 20/-20; tpd @ Nom Voltage(Max)(ns): 29,18.7,12.5,10.1,7.2,6; Logic: True; Sub-Family: Non-Inverting Buffer/Driver; 3-State Output: Yes; DatasheetVersion: SCES596F; PackageReference: DSF0006A; Supplier 1: Mouser; Supplier Part Number 1: 595-SN74AUP1G126DSFR; Supplier 2: Digi-Key; Supplier Part Number 2: 296-27308-2-ND; Supplier 3: Digi-Key; Supplier Part Number 3: 296-27308-1-ND; Supplier 4: Digi-Key; Supplier Part Number 4: 296-27308-6-ND; Input Type: CMOS; Operating Temperature Range(C): -40 to 85; ComponentLink1Description: Manufacturer URL; ComponentLink1URL: http://www.ti.com/; ComponentLink2Description: Datasheet; ComponentLink2URL: http://www.ti.com/lit/ds/symlink/sn74aup1g126.pdf
footprint DSF0006A_V (SON, 6-Leads, Body 1x1mm, Pitch 0.35mm, TI Recommend)
part A pins: 1 OE (in), 2 A (in), 4 Y (hiz)
part B pins: 3 GND (power), 5 NC, 6 VCC (power)

## SN74AUP1G126YFPR
designator U?
Low-Power Single Bus Buffer Gate with 3-State Output, YZP0006AAAA, LARGE T&R; Generic Part Number: SN74AUP1G126; Manufacturer: Texas Instruments; PartNumber: SN74AUP1G126YFPR; VCC(Min)(V): 0.8; VCC(Max)(V): 3.6; Output Type: CMOS; ICC @ Nom Voltage(Max)(mA): 0.0009; Bits(#): 1; F @ Nom Voltage(Max)(Mhz): 100; Rating: Catalog; Technology Family: AUP; Voltage(Nom)(V): 0.8,1.2,1.5,1.8,2.5,3.3; Schmitt Trigger: No; Output Drive (IOL/IOH)(Max)(mA): 20/-20; tpd @ Nom Voltage(Max)(ns): 29,18.7,12.5,10.1,7.2,6; Logic: True; Sub-Family: Non-Inverting Buffer/Driver; 3-State Output: Yes; DatasheetVersion: SCES596F; PackageReference: YZP0006AAAA; Supplier 1: Mouser; Supplier Part Number 1: 595-SN74AUP1G126YFPR; Supplier 2: Digi-Key; Supplier Part Number 2: 296-36969-2-ND; Supplier 3: Digi-Key; Supplier Part Number 3: 296-36969-1-ND; Supplier 4: Digi-Key; Supplier Part Number 4: 296-36969-6-ND; Input Type: CMOS; Operating Temperature Range(C): -40 to 85; ComponentLink1Description: Manufacturer URL; ComponentLink1URL: http://www.ti.com/; ComponentLink2Description: Datasheet; ComponentLink2URL: http://www.ti.com/lit/ds/symlink/sn74aup1g126.pdf
footprint YZP0006AAAA (BGA, 6-Balls, Body 1.16x0.76mm, Pitch 0.4mm)
part A pins: A1 OE (in), B1 A (in), C2 Y (hiz)
part B pins: A2 VCC (power), B2 NC, C1 GND (power)

## SN74AUP1G126YZPR
designator U?
Low-Power Single Bus Buffer Gate with 3-State Output, YZP0005ADAD, LARGE T&R; Generic Part Number: SN74AUP1G126; Manufacturer: Texas Instruments; PartNumber: SN74AUP1G126YZPR; VCC(Min)(V): 0.8; VCC(Max)(V): 3.6; Output Type: CMOS; ICC @ Nom Voltage(Max)(mA): 0.0009; Bits(#): 1; F @ Nom Voltage(Max)(Mhz): 100; Rating: Catalog; Technology Family: AUP; Voltage(Nom)(V): 0.8,1.2,1.5,1.8,2.5,3.3; Schmitt Trigger: No; Output Drive (IOL/IOH)(Max)(mA): 20/-20; tpd @ Nom Voltage(Max)(ns): 29,18.7,12.5,10.1,7.2,6; Logic: True; Sub-Family: Non-Inverting Buffer/Driver; 3-State Output: Yes; DatasheetVersion: SCES596F; PackageReference: YZP0005ADAD; Supplier 1: Mouser; Supplier Part Number 1: 595-SN74AUP1G126YZPR; Supplier 2: Digi-Key; Supplier Part Number 2: 296-21014-2-ND; Supplier 3: Digi-Key; Supplier Part Number 3: 296-21014-1-ND; Supplier 4: Digi-Key; Supplier Part Number 4: 296-21014-6-ND; Input Type: CMOS; Operating Temperature Range(C): -40 to 85; ComponentLink1Description: Manufacturer URL; ComponentLink1URL: http://www.ti.com/; ComponentLink2Description: Datasheet; ComponentLink2URL: http://www.ti.com/lit/ds/symlink/sn74aup1g126.pdf
footprint YZP0005ADAD (BGA, 5-Balls, Body 1.39x0.89mm, Pitch 0.5mm)
part A pins: A1 OE (in) "OE Enable/Input", B1 A (in) "A Input", C2 Y (hiz) "Y Output"
part B pins: A2 VCC (power) "Power Pin", C1 GND (power) "Ground Pin"

## SN74AUP1G240DBVR
designator U?
Low-Power Single Buffer/Driver with 3-State Output, DBV0005A, LARGE T&R; Generic Part Number: SN74AUP1G240; Manufacturer: Texas Instruments; PartNumber: SN74AUP1G240DBVR; VCC(Min)(V): 0.8; VCC(Max)(V): 3.6; Output Type: CMOS; ICC @ Nom Voltage(Max)(mA): 0.0009; Bits(#): 1; F @ Nom Voltage(Max)(Mhz): 100; Rating: Catalog; Technology Family: AUP; Voltage(Nom)(V): 0.8,1.2,1.5,1.8,2.5,3.3; Schmitt Trigger: No; Output Drive (IOL/IOH)(Max)(mA): 20/-20; tpd @ Nom Voltage(Max)(ns): 29,16.1,11,9.2,6.8,5.7; Logic: Inverting; Sub-Family: Non-Inverting Buffer/Driver; 3-State Output: Yes; DatasheetVersion: SCES627C; PackageReference: DBV0005A; Supplier 1: Mouser; Supplier Part Number 1: 595-SN74AUP1G240DBVR; Supplier 2: Digi-Key; Supplier Part Number 2: 296-17917-2-ND; Supplier 3: Digi-Key; Supplier Part Number 3: 296-17917-1-ND; Supplier 4: Digi-Key; Supplier Part Number 4: 296-17917-6-ND; Input Type: CMOS; Operating Temperature Range(C): -40 to 85; ComponentLink1Description: Manufacturer URL; ComponentLink1URL: http://www.ti.com/; ComponentLink2Description: Datasheet; ComponentLink2URL: http://www.ti.com/lit/ds/symlink/sn74aup1g240.pdf
footprint DBV0005A_N (SOT23, 5-Leads, Body 3.05x1.75mm, Pitch 0.95mm, IPC Medium Density)
footprint DBV0005A_M (SOT23, 5-Leads, Body 3.05x1.75mm, Pitch 0.95mm, IPC Low Density)
footprint DBV0005A_L (SOT23, 5-Leads, Body 3.05x1.75mm, Pitch 0.95mm, IPC High Density)
part A pins: 1 ~{OE} (in), 2 A (in), 4 Y (hiz)
part B pins: 3 GND (power), 5 VCC (power)

## SN74AUP1G240DBVT
designator U?
Low-Power Single Buffer/Driver with 3-State Output, DBV0005A, SMALL T&R; Generic Part Number: SN74AUP1G240; Manufacturer: Texas Instruments; PartNumber: SN74AUP1G240DBVT; VCC(Min)(V): 0.8; VCC(Max)(V): 3.6; Output Type: CMOS; ICC @ Nom Voltage(Max)(mA): 0.0009; Bits(#): 1; F @ Nom Voltage(Max)(Mhz): 100; Rating: Catalog; Technology Family: AUP; Voltage(Nom)(V): 0.8,1.2,1.5,1.8,2.5,3.3; Schmitt Trigger: No; Output Drive (IOL/IOH)(Max)(mA): 20/-20; tpd @ Nom Voltage(Max)(ns): 29,16.1,11,9.2,6.8,5.7; Logic: Inverting; Sub-Family: Non-Inverting Buffer/Driver; 3-State Output: Yes; DatasheetVersion: SCES627C; PackageReference: DBV0005A; Supplier 1: Mouser; Supplier Part Number 1: 595-SN74AUP1G240DBVT; Supplier 2: Digi-Key; Supplier Part Number 2: SN74AUP1G240DBVT-ND; Input Type: CMOS; Operating Temperature Range(C): -40 to 85; ComponentLink1Description: Manufacturer URL; ComponentLink1URL: http://www.ti.com/; ComponentLink2Description: Datasheet; ComponentLink2URL: http://www.ti.com/lit/ds/symlink/sn74aup1g240.pdf
footprint DBV0005A_N (SOT23, 5-Leads, Body 3.05x1.75mm, Pitch 0.95mm, IPC Medium Density)
footprint DBV0005A_M (SOT23, 5-Leads, Body 3.05x1.75mm, Pitch 0.95mm, IPC Low Density)
footprint DBV0005A_L (SOT23, 5-Leads, Body 3.05x1.75mm, Pitch 0.95mm, IPC High Density)
part A pins: 1 ~{OE} (in), 2 A (in), 4 Y (hiz)
part B pins: 3 GND (power), 5 VCC (power)

## SN74AUP1G240DCKR
designator U?
Low-Power Single Buffer/Driver with 3-State Output, DCK0005A, LARGE T&R; Generic Part Number: SN74AUP1G240; Manufacturer: Texas Instruments; PartNumber: SN74AUP1G240DCKR; VCC(Min)(V): 0.8; VCC(Max)(V): 3.6; Output Type: CMOS; ICC @ Nom Voltage(Max)(mA): 0.0009; Bits(#): 1; F @ Nom Voltage(Max)(Mhz): 100; Rating: Catalog; Technology Family: AUP; Voltage(Nom)(V): 0.8,1.2,1.5,1.8,2.5,3.3; Schmitt Trigger: No; Output Drive (IOL/IOH)(Max)(mA): 20/-20; tpd @ Nom Voltage(Max)(ns): 29,16.1,11,9.2,6.8,5.7; Logic: Inverting; Sub-Family: Non-Inverting Buffer/Driver; 3-State Output: Yes; DatasheetVersion: SCES627C; PackageReference: DCK0005A; Supplier 1: Mouser; Supplier Part Number 1: 595-SN74AUP1G240DCKR; Supplier 2: Digi-Key; Supplier Part Number 2: 296-17918-2-ND; Supplier 3: Digi-Key; Supplier Part Number 3: 296-17918-1-ND; Supplier 4: Digi-Key; Supplier Part Number 4: 296-17918-6-ND; Input Type: CMOS; Operating Temperature Range(C): -40 to 85; ComponentLink1Description: Manufacturer URL; ComponentLink1URL: http://www.ti.com/; ComponentLink2Description: Datasheet; ComponentLink2URL: http://www.ti.com/lit/ds/symlink/sn74aup1g240.pdf
footprint DCK0005A_N (SOT23, 5-Leads, Body 2.15x1.4mm, Pitch 0.65mm, IPC Medium Density)
footprint DCK0005A_M (SOT23, 5-Leads, Body 2.15x1.4mm, Pitch 0.65mm, IPC Low Density)
footprint DCK0005A_L (SOT23, 5-Leads, Body 2.15x1.4mm, Pitch 0.65mm, IPC High Density)
part A pins: 1 ~{OE} (in), 2 A (in), 4 Y (hiz)
part B pins: 3 GND (power), 5 VCC (power)

## SN74AUP1G240DCKT
designator U?
Low-Power Single Buffer/Driver with 3-State Output, DCK0005A, SMALL T&R; Generic Part Number: SN74AUP1G240; Manufacturer: Texas Instruments; PartNumber: SN74AUP1G240DCKT; VCC(Min)(V): 0.8; VCC(Max)(V): 3.6; Output Type: CMOS; ICC @ Nom Voltage(Max)(mA): 0.0009; Bits(#): 1; F @ Nom Voltage(Max)(Mhz): 100; Rating: Catalog; Technology Family: AUP; Voltage(Nom)(V): 0.8,1.2,1.5,1.8,2.5,3.3; Schmitt Trigger: No; Output Drive (IOL/IOH)(Max)(mA): 20/-20; tpd @ Nom Voltage(Max)(ns): 29,16.1,11,9.2,6.8,5.7; Logic: Inverting; Sub-Family: Non-Inverting Buffer/Driver; 3-State Output: Yes; DatasheetVersion: SCES627C; PackageReference: DCK0005A; Supplier 1: Mouser; Supplier Part Number 1: 595-SN74AUP1G240DCKT; Supplier 2: Digi-Key; Supplier Part Number 2: SN74AUP1G240DCKT-ND; Input Type: CMOS; Operating Temperature Range(C): -40 to 85; ComponentLink1Description: Manufacturer URL; ComponentLink1URL: http://www.ti.com/; ComponentLink2Description: Datasheet; ComponentLink2URL: http://www.ti.com/lit/ds/symlink/sn74aup1g240.pdf
footprint DCK0005A_N (SOT23, 5-Leads, Body 2.15x1.4mm, Pitch 0.65mm, IPC Medium Density)
footprint DCK0005A_M (SOT23, 5-Leads, Body 2.15x1.4mm, Pitch 0.65mm, IPC Low Density)
footprint DCK0005A_L (SOT23, 5-Leads, Body 2.15x1.4mm, Pitch 0.65mm, IPC High Density)
part A pins: 1 ~{OE} (in), 2 A (in), 4 Y (hiz)
part B pins: 3 GND (power), 5 VCC (power)

## SN74AUP1G240DRYR
designator U?
Low-Power Single Buffer/Driver with 3-State Output, DRY0006A, LARGE T&R; Generic Part Number: SN74AUP1G240; Manufacturer: Texas Instruments; PartNumber: SN74AUP1G240DRYR; VCC(Min)(V): 0.8; VCC(Max)(V): 3.6; Output Type: CMOS; ICC @ Nom Voltage(Max)(mA): 0.0009; Bits(#): 1; F @ Nom Voltage(Max)(Mhz): 100; Rating: Catalog; Technology Family: AUP; Voltage(Nom)(V): 0.8,1.2,1.5,1.8,2.5,3.3; Schmitt Trigger: No; Output Drive (IOL/IOH)(Max)(mA): 20/-20; tpd @ Nom Voltage(Max)(ns): 29,16.1,11,9.2,6.8,5.7; Logic: Inverting; Sub-Family: Non-Inverting Buffer/Driver; 3-State Output: Yes; DatasheetVersion: SCES627C; PackageReference: DRY0006A; Supplier 1: Mouser; Supplier Part Number 1: 595-SN74AUP1G240DRYR; Supplier 2: Digi-Key; Supplier Part Number 2: 296-27273-2-ND; Supplier 3: Digi-Key; Supplier Part Number 3: 296-27273-1-ND; Supplier 4: Digi-Key; Supplier Part Number 4: 296-27273-6-ND; Input Type: CMOS; Operating Temperature Range(C): -40 to 85; ComponentLink1Description: Manufacturer URL; ComponentLink1URL: http://www.ti.com/; ComponentLink2Description: Datasheet; ComponentLink2URL: http://www.ti.com/lit/ds/symlink/sn74aup1g240.pdf
footprint DRY0006A_V (SON, 6-Leads, Body 1.45x1mm, Pitch 0.5mm)
part A pins: 1 ~{OE} (in), 2 A (in), 4 Y (hiz)
part B pins: 3 GND (power), 5 NC, 6 VCC (power)

## SN74AUP1G240DSFR
designator U?
Low-Power Single Buffer/Driver with 3-State Output, DSF0006A, LARGE T&R; Generic Part Number: SN74AUP1G240; Manufacturer: Texas Instruments; PartNumber: SN74AUP1G240DSFR; VCC(Min)(V): 0.8; VCC(Max)(V): 3.6; Output Type: CMOS; ICC @ Nom Voltage(Max)(mA): 0.0009; Bits(#): 1; F @ Nom Voltage(Max)(Mhz): 100; Rating: Catalog; Technology Family: AUP; Voltage(Nom)(V): 0.8,1.2,1.5,1.8,2.5,3.3; Schmitt Trigger: No; Output Drive (IOL/IOH)(Max)(mA): 20/-20; tpd @ Nom Voltage(Max)(ns): 29,16.1,11,9.2,6.8,5.7; Logic: Inverting; Sub-Family: Non-Inverting Buffer/Driver; 3-State Output: Yes; DatasheetVersion: SCES627C; PackageReference: DSF0006A; Supplier 1: Mouser; Supplier Part Number 1: 595-SN74AUP1G240DSFR; Supplier 2: Digi-Key; Supplier Part Number 2: 296-27274-2-ND; Supplier 3: Digi-Key; Supplier Part Number 3: 296-27274-1-ND; Supplier 4: Digi-Key; Supplier Part Number 4: 296-27274-6-ND; Input Type: CMOS; Operating Temperature Range(C): -40 to 85; ComponentLink1Description: Manufacturer URL; ComponentLink1URL: http://www.ti.com/; ComponentLink2Description: Datasheet; ComponentLink2URL: http://www.ti.com/lit/ds/symlink/sn74aup1g240.pdf
footprint DSF0006A_V (SON, 6-Leads, Body 1x1mm, Pitch 0.35mm, TI Recommend)
part A pins: 1 ~{OE} (in), 2 A (in), 4 Y (hiz)
part B pins: 3 GND (power), 5 NC, 6 VCC (power)

## SN74AUP1G240YFPR
designator U?
Low-Power Single Buffer/Driver with 3-State Output, YZP0006AAAA, LARGE T&R; Generic Part Number: SN74AUP1G240; Manufacturer: Texas Instruments; PartNumber: SN74AUP1G240YFPR; VCC(Min)(V): 0.8; VCC(Max)(V): 3.6; Output Type: CMOS; ICC @ Nom Voltage(Max)(mA): 0.0009; Bits(#): 1; F @ Nom Voltage(Max)(Mhz): 100; Rating: Catalog; Technology Family: AUP; Voltage(Nom)(V): 0.8,1.2,1.5,1.8,2.5,3.3; Schmitt Trigger: No; Output Drive (IOL/IOH)(Max)(mA): 20/-20; tpd @ Nom Voltage(Max)(ns): 29,16.1,11,9.2,6.8,5.7; Logic: Inverting; Sub-Family: Non-Inverting Buffer/Driver; 3-State Output: Yes; DatasheetVersion: SCES627C; PackageReference: YZP0006AAAA; Supplier 1: Mouser; Supplier Part Number 1: 595-SN74AUP1G240YFPR; Supplier 2: Digi-Key; Supplier Part Number 2: SN74AUP1G240YFPR-ND; Input Type: CMOS; Operating Temperature Range(C): -40 to 85; ComponentLink1Description: Manufacturer URL; ComponentLink1URL: http://www.ti.com/; ComponentLink2Description: Datasheet; ComponentLink2URL: http://www.ti.com/lit/ds/symlink/sn74aup1g240.pdf
footprint YZP0006AAAA (BGA, 6-Balls, Body 1.16x0.76mm, Pitch 0.4mm)
part A pins: A1 ~{OE} (in), B1 A (in), C2 Y (hiz)
part B pins: A2 VCC (power), B2 NC, C1 GND (power)

## SN74AUP1G240YZPR
designator U?
Low-Power Single Buffer/Driver with 3-State Output, YZP0005ADAD, LARGE T&R; Generic Part Number: SN74AUP1G240; Manufacturer: Texas Instruments; PartNumber: SN74AUP1G240YZPR; VCC(Min)(V): 0.8; VCC(Max)(V): 3.6; Output Type: CMOS; ICC @ Nom Voltage(Max)(mA): 0.0009; Bits(#): 1; F @ Nom Voltage(Max)(Mhz): 100; Rating: Catalog; Technology Family: AUP; Voltage(Nom)(V): 0.8,1.2,1.5,1.8,2.5,3.3; Schmitt Trigger: No; Output Drive (IOL/IOH)(Max)(mA): 20/-20; tpd @ Nom Voltage(Max)(ns): 29,16.1,11,9.2,6.8,5.7; Logic: Inverting; Sub-Family: Non-Inverting Buffer/Driver; 3-State Output: Yes; DatasheetVersion: SCES627C; PackageReference: YZP0005ADAD; Supplier 1: Mouser; Supplier Part Number 1: 595-SN74AUP1G240YZPR; Supplier 2: Digi-Key; Supplier Part Number 2: 296-21015-2-ND; Supplier 3: Digi-Key; Supplier Part Number 3: 296-21015-1-ND; Supplier 4: Digi-Key; Supplier Part Number 4: 296-21015-6-ND; Input Type: CMOS; Operating Temperature Range(C): -40 to 85; ComponentLink1Description: Manufacturer URL; ComponentLink1URL: http://www.ti.com/; ComponentLink2Description: Datasheet; ComponentLink2URL: http://www.ti.com/lit/ds/symlink/sn74aup1g240.pdf
footprint YZP0005ADAD (BGA, 5-Balls, Body 1.39x0.89mm, Pitch 0.5mm)
part A pins: A1 ~{OE} (in), B1 A (in), C2 Y (hiz)
part B pins: A2 VCC (power), C1 GND (power)

## SN74AUP1T00DCKR
designator U?
Low Power, 1.8/2.5/3.3-V In, 3.3-V CMOS Out, Single 2-Input Positive-NAND Gate, DCK0005A, LARGE T&R; Generic Part Number: SN74AUP1T00; Manufacturer: Texas Instruments; PartNumber: SN74AUP1T00DCKR; VCC(Min)(V): 0.8; VCC(Max)(V): 3.6; Logic: True; ICC @ Nom Voltage(Max)(mA): 0.0009; Bits(#): 1; F @ Nom Voltage(Max)(Mhz): 190; Rating: Catalog; Technology Family: AUP1T; Voltage(Nom)(V): 1.8,2.5,3.3; Schmitt Trigger: No; Output Drive (IOL/IOH)(Max)(mA): 4/-4; Sub-Family: Single Supply Translator; tpd @ Nom Voltage(Max)(ns): 9.8,8.5,7.8; DatasheetVersion: SCES798; PackageReference: DCK0005A; Supplier 1: Mouser; Supplier Part Number 1: 595-SN74AUP1T00DCKR; Supplier 2: Digi-Key; Supplier Part Number 2: 296-27388-2-ND; Supplier 3: Digi-Key; Supplier Part Number 3: 296-27388-1-ND; Supplier 4: Digi-Key; Supplier Part Number 4: 296-27388-6-ND; Output Type: CMOS; Input Type: CMOS; Operating Temperature Range(C): -40 to 85; 3-State Output: No; ComponentLink1Description: Manufacturer URL; ComponentLink1URL: http://www.ti.com/; ComponentLink2Description: Datasheet; ComponentLink2URL: http://www.ti.com/lit/ds/symlink/sn74aup1t00.pdf
footprint DCK0005A_N (SOT23, 5-Leads, Body 2.15x1.4mm, Pitch 0.65mm, IPC Medium Density)
footprint DCK0005A_M (SOT23, 5-Leads, Body 2.15x1.4mm, Pitch 0.65mm, IPC Low Density)
footprint DCK0005A_L (SOT23, 5-Leads, Body 2.15x1.4mm, Pitch 0.65mm, IPC High Density)
part A pins: 1 A (in) "Input A", 2 B (in) "Input B", 4 Y (out) "Output Y"
part B pins: 3 GND (power) "Ground Pin", 5 VCC (power) "Power Pin"

## SN74AUP1T02DCKR
designator U?
Low Power, 1.8/2.5/3.3-V In, 3.3-V CMOS Out, Single 2-Input Positive-NOR Gate, DCK0005A, LARGE T&R; Generic Part Number: SN74AUP1T02; Manufacturer: Texas Instruments; PartNumber: SN74AUP1T02DCKR; VCC(Min)(V): 0.8; VCC(Max)(V): 3.6; Logic: True; ICC @ Nom Voltage(Max)(mA): 0.0009; Bits(#): 1; F @ Nom Voltage(Max)(Mhz): 190; Rating: Catalog; Technology Family: AUP1T; Voltage(Nom)(V): 1.8,2.5,3.3; Schmitt Trigger: No; Output Drive (IOL/IOH)(Max)(mA): 4/-4; Sub-Family: Single Supply Translator; tpd @ Nom Voltage(Max)(ns): 9.8,8.5,7.8; DatasheetVersion: SCES799; PackageReference: DCK0005A; Supplier 1: Mouser; Supplier Part Number 1: 595-SN74AUP1T02DCKR; Supplier 2: Digi-Key; Supplier Part Number 2: 296-27389-2-ND; Supplier 3: Digi-Key; Supplier Part Number 3: 296-27389-1-ND; Supplier 4: Digi-Key; Supplier Part Number 4: 296-27389-6-ND; Output Type: CMOS; Input Type: CMOS; Operating Temperature Range(C): -40 to 85; 3-State Output: No; ComponentLink1Description: Manufacturer URL; ComponentLink1URL: http://www.ti.com/; ComponentLink2Description: Datasheet; ComponentLink2URL: http://www.ti.com/lit/ds/symlink/sn74aup1t02.pdf
footprint DCK0005A_N (SOT23, 5-Leads, Body 2.15x1.4mm, Pitch 0.65mm, IPC Medium Density)
footprint DCK0005A_M (SOT23, 5-Leads, Body 2.15x1.4mm, Pitch 0.65mm, IPC Low Density)
footprint DCK0005A_L (SOT23, 5-Leads, Body 2.15x1.4mm, Pitch 0.65mm, IPC High Density)
part A pins: 1 A (in) "Input A", 2 B (in) "Input B", 4 Y (out) "Output Y"
part B pins: 3 GND (power) "Ground Pin", 5 VCC (power) "Power Pin"

## SN74AUP1T04DCKR
designator U?
Low Power, 1.8/2.5/3.3-V Input, 3.3-V CMOS Output, Single Inverter Gate, DCK0005A, LARGE T&R; Generic Part Number: SN74AUP1T04; Manufacturer: Texas Instruments; PartNumber: SN74AUP1T04DCKR; VCC(Min)(V): 0.8; VCC(Max)(V): 3.6; Logic: True; ICC @ Nom Voltage(Max)(mA): 0.0009; Bits(#): 1; F @ Nom Voltage(Max)(Mhz): 190; Rating: Catalog; Technology Family: AUP1T; Voltage(Nom)(V): 1.8,2.5,3.3; Schmitt Trigger: No; Output Drive (IOL/IOH)(Max)(mA): 4/-4; Sub-Family: Single Supply Translator; tpd @ Nom Voltage(Max)(ns): 9.8,8.5,7.8; DatasheetVersion: SCES800; PackageReference: DCK0005A; Supplier 1: Mouser; Supplier Part Number 1: 595-SN74AUP1T04DCKR; Supplier 2: Digi-Key; Supplier Part Number 2: 296-27390-2-ND; Supplier 3: Digi-Key; Supplier Part Number 3: 296-27390-1-ND; Supplier 4: Digi-Key; Supplier Part Number 4: 296-27390-6-ND; Output Type: CMOS; Input Type: CMOS; Operating Temperature Range(C): -40 to 85; 3-State Output: No; ComponentLink1Description: Manufacturer URL; ComponentLink1URL: http://www.ti.com/; ComponentLink2Description: Datasheet; ComponentLink2URL: http://www.ti.com/lit/ds/symlink/sn74aup1t04.pdf
footprint DCK0005A_N (SOT23, 5-Leads, Body 2.15x1.4mm, Pitch 0.65mm, IPC Medium Density)
footprint DCK0005A_M (SOT23, 5-Leads, Body 2.15x1.4mm, Pitch 0.65mm, IPC Low Density)
footprint DCK0005A_L (SOT23, 5-Leads, Body 2.15x1.4mm, Pitch 0.65mm, IPC High Density)
part A pins: 2 A (in) "Input A", 4 Y (out) "Output Y"
part B pins: 1 NC "Ground", 3 GND (power) "Ground Pin", 5 VCC (power) "Power Pin"